# Altium footprint library PcbLib1.PcbLib: 218 footprints (part 13 of 14)
Each footprint in its own frame and in the unit in brackets; x right, y up, seen from the top. Pads: shape width x height; smd on the part's side, far side on the other; paste and mask are expansions set on the pad; w line width, h text height; cw(c..) or ccw(c..) is an arc to the next point about the centre after c.
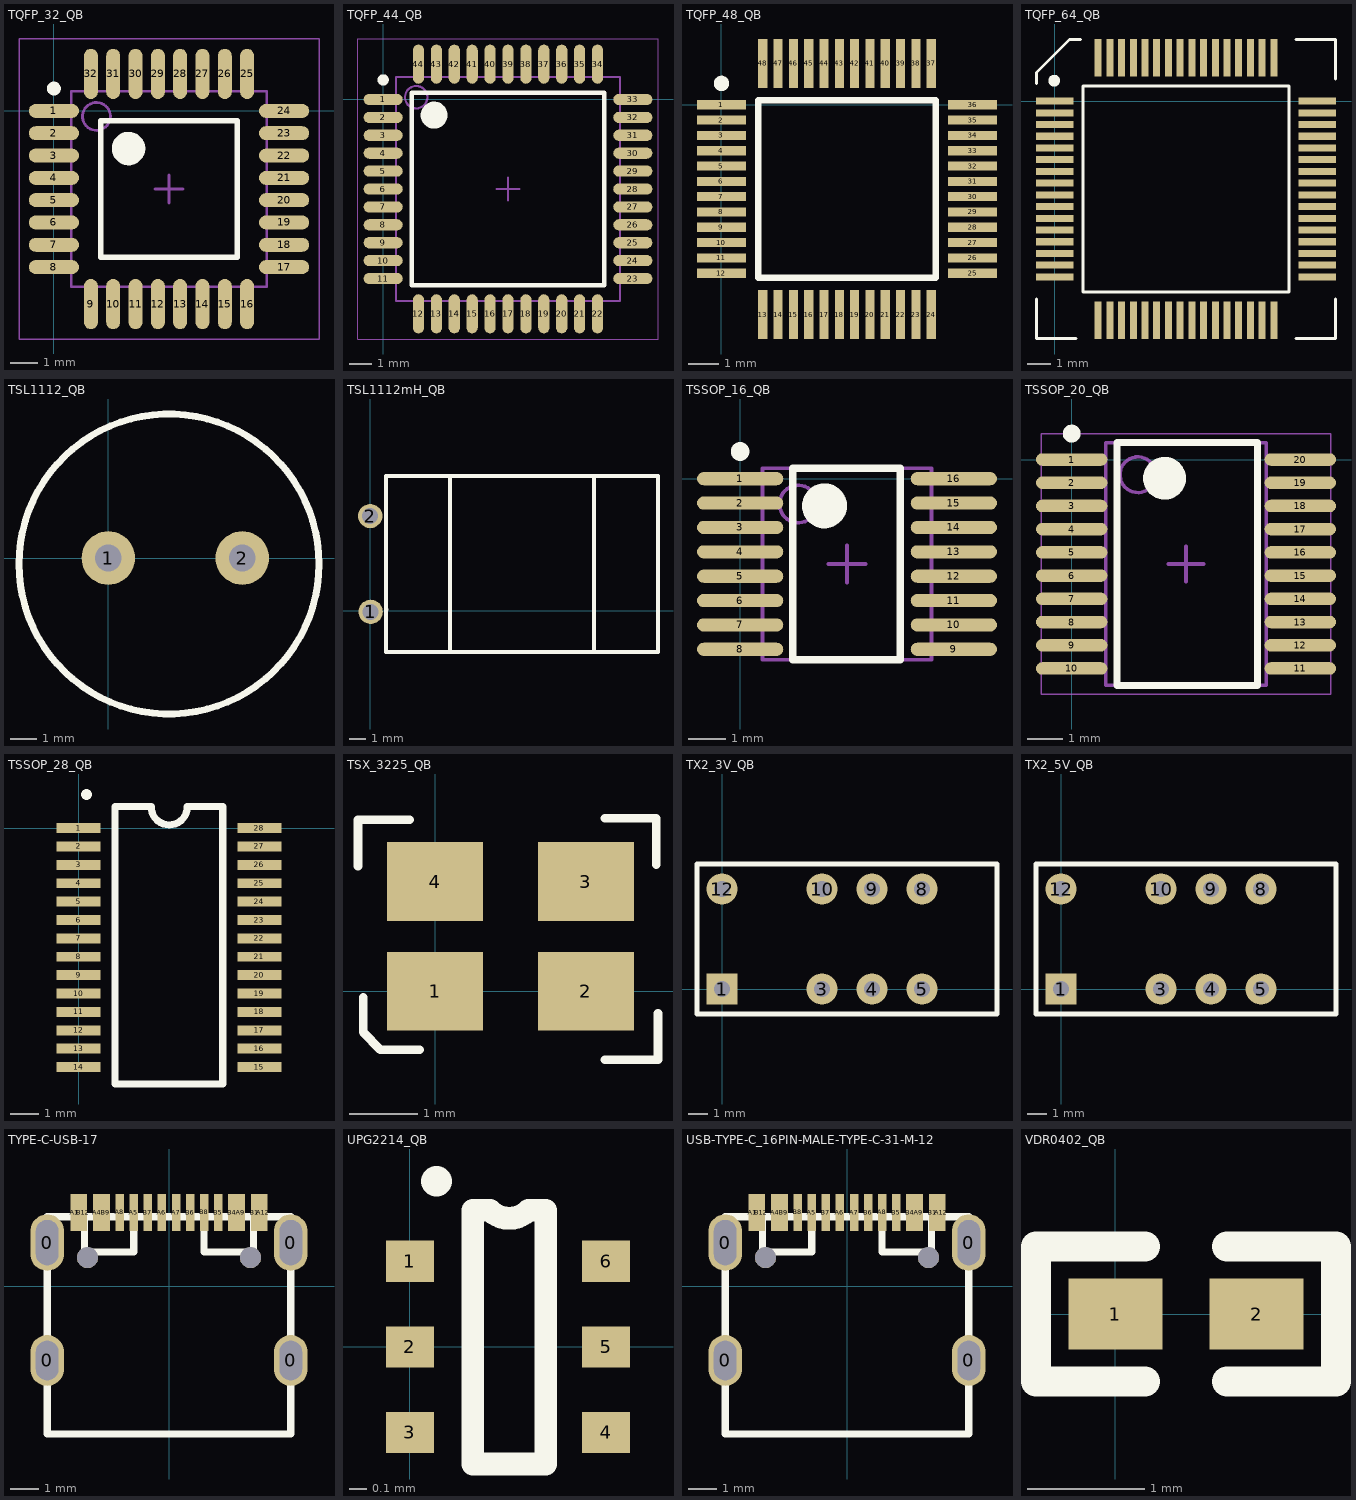
[diagram p12: the footprints below, top view; thin cyan lines are the x and y axes]

## TQFP_32_QB [mm]
height 1.2
pads (32):
  oval 1.8x0.5 smd: 1(0,0) 2(0,-0.8) 3(0,-1.6) 4(0,-2.4) 5(0,-3.2) 6(0,-4) 7(0,-4.8) 8(0,-5.6) 17(8.25,-5.6) 18(8.25,-4.8) 19(8.25,-4) 20(8.25,-3.2) 21(8.25,-2.4) 22(8.25,-1.6) 23(8.25,-0.8) 24(8.25,0)
  oval 0.5x1.8 smd: 9(1.325,-6.925) 10(2.125,-6.925) 11(2.925,-6.925) 12(3.725,-6.925) 13(4.525,-6.925) 14(5.325,-6.925) 15(6.125,-6.925) 16(6.925,-6.925) 25(6.925,1.325) 26(6.125,1.325) 27(5.325,1.325) 28(4.525,1.325) 29(3.725,1.325) 30(2.925,1.325) 31(2.125,1.325) 32(1.325,1.325)
Top Overlay:
  circle w0.25: c0,0.8 r0.125
  circle w0.6: c2.675,-1.35 r0.3
  lines w0.2: 1.675,-5.25 1.675,-0.35 6.575,-0.35 6.575,-5.25 1.675,-5.25
Mechanical 13:
  circle w0.1: c1.525,-0.2 r0.5
  lines w0.1: 0.625,-6.3 0.625,0.7 7.625,0.7 7.625,-6.3 0.625,-6.3
Mechanical 15:
  lines w0.05: -1.25,-8.175 -1.25,2.575 9.5,2.575 9.5,-8.175 -1.25,-8.175
  lines w0.1: 3.625,-2.8 4.625,-2.8 ; 4.125,-3.3 4.125,-2.3
3D body: height 0.2, standoff 0, extent 0,-0.191 0.635,0.19
3D body: height 0.2, standoff 0, extent 0.064,-0.952 0.699,-0.571
3D body: height 0.2, standoff 0, extent 0.064,-1.714 0.699,-1.333
3D body: height 0.2, standoff 0, extent 0.064,-2.603 0.699,-2.222
3D body: height 0.2, standoff 0, extent 0.064,-3.365 0.699,-2.984
3D body: height 0.2, standoff 0, extent 0.064,-4.127 0.699,-3.746
3D body: height 0.2, standoff 0, extent 0.064,-5.016 0.699,-4.635
3D body: height 0.2, standoff 0, extent 0.064,-5.778 0.699,-5.397
3D body: height 0.2, standoff 0, extent 1.079,-6.922 1.46,-6.286
3D body: height 0.2, standoff 0, extent 1.969,-6.921 2.35,-6.286
3D body: height 0.2, standoff 0, extent 2.731,-6.921 3.112,-6.286
3D body: height 0.2, standoff 0, extent 3.493,-6.921 3.874,-6.286
3D body: height 0.2, standoff 0, extent 4.255,-6.921 4.636,-6.286
3D body: height 0.2, standoff 0, extent 5.144,-6.921 5.525,-6.286
3D body: height 0.2, standoff 0, extent 5.906,-6.921 6.287,-6.286
3D body: height 0.2, standoff 0, extent 6.668,-6.921 7.049,-6.286
3D body: height 0.2, standoff 0, extent 7.557,-5.778 8.192,-5.397
3D body: height 0.2, standoff 0, extent 7.556,-5.016 8.192,-4.635
3D body: height 0.2, standoff 0, extent 7.556,-4.127 8.192,-3.746
3D body: height 0.2, standoff 0, extent 7.556,-3.365 8.192,-2.984
3D body: height 0.2, standoff 0, extent 7.556,-2.603 8.192,-2.222
3D body: height 0.2, standoff 0, extent 7.557,-1.714 8.192,-1.333
3D body: height 0.2, standoff 0, extent 7.557,-0.952 8.192,-0.571
3D body: height 0.2, standoff 0, extent 7.557,-0.19 8.192,0.191
3D body: height 0.2, standoff 0, extent 6.795,0.699 7.176,1.334
3D body: height 0.2, standoff 0, extent 5.906,0.699 6.287,1.334
3D body: height 0.2, standoff 0, extent 5.144,0.699 5.525,1.334
3D body: height 0.2, standoff 0, extent 4.382,0.699 4.763,1.334
3D body: height 0.2, standoff 0, extent 3.493,0.699 3.874,1.334
3D body: height 0.2, standoff 0, extent 2.731,0.699 3.112,1.334
3D body: height 0.2, standoff 0, extent 1.969,0.699 2.35,1.334
3D body: height 0.2, standoff 0, extent 1.08,0.699 1.461,1.334
3D body: height 1.2, standoff 0.1, extent 0.625,-6.3 7.625,0.7

## TQFP_44_QB [mm] "TQFP, 44-Leads, Body 10.00x10.00mm, Pitch 0.80mm, IPC Medium Density"
height 1.2
pads (44):
  oval 1.75x0.5 smd: 1(0,0) 2(0,-0.8) 3(0,-1.6) 4(0,-2.4) 5(0,-3.2) 6(0,-4) 7(0,-4.8) 8(0,-5.6) 9(0,-6.4) 10(0,-7.2) 11(0,-8) 23(11.15,-8) 24(11.15,-7.2) 25(11.15,-6.4) 26(11.15,-5.6) 27(11.15,-4.8) 28(11.15,-4) 29(11.15,-3.2) 30(11.15,-2.4) 31(11.15,-1.6) 32(11.15,-0.8) 33(11.15,0)
  oval 0.5x1.75 smd: 12(1.575,-9.575) 13(2.375,-9.575) 14(3.175,-9.575) 15(3.975,-9.575) 16(4.775,-9.575) 17(5.575,-9.575) 18(6.375,-9.575) 19(7.175,-9.575) 20(7.975,-9.575) 21(8.775,-9.575) 22(9.575,-9.575) 34(9.575,1.575) 35(8.775,1.575) 36(7.975,1.575) 37(7.175,1.575) 38(6.375,1.575) 39(5.575,1.575) 40(4.775,1.575) 41(3.975,1.575) 42(3.175,1.575) 43(2.375,1.575) 44(1.575,1.575)
Top Overlay:
  circle w0.25: c0,0.875 r0.125
  circle w0.6: c2.275,-0.7 r0.3
  lines w0.2: 1.275,-8.3 1.275,0.3 9.875,0.3 9.875,-8.3 1.275,-8.3
Mechanical 13:
  circle w0.1: c1.475,0.1 r0.5
  lines w0.1: 0.575,-9 0.575,1 10.575,1 10.575,-9 0.575,-9
Mechanical 15:
  lines w0.05: -1.125,-10.7 -1.125,2.7 12.275,2.7 12.275,-10.7 -1.125,-10.7
  lines w0.1: 5.075,-4 6.075,-4 ; 5.575,-4.5 5.575,-3.5
3D body: height 0.2, standoff 0, extent 1.27,1.397 1.778,2.159
3D body: height 0.6, standoff 0, extent 1.27,1.397 1.778,1.524
3D body: height 0.8, standoff 0.6, extent 1.27,1.016 1.778,1.524
3D body: height 0.2, standoff 0, extent 2.159,1.397 2.667,2.159
3D body: height 0.6, standoff 0, extent 2.159,1.397 2.667,1.524
3D body: height 0.8, standoff 0.6, extent 2.159,1.016 2.667,1.524
3D body: height 0.2, standoff 0, extent 2.921,1.397 3.429,2.159
3D body: height 0.6, standoff 0, extent 2.921,1.397 3.429,1.524
3D body: height 0.8, standoff 0.6, extent 2.921,1.016 3.429,1.524
3D body: height 0.2, standoff 0, extent 3.683,1.397 4.191,2.159
3D body: height 0.6, standoff 0, extent 3.683,1.397 4.191,1.524
3D body: height 0.8, standoff 0.6, extent 3.683,1.016 4.191,1.524
3D body: height 0.2, standoff 0, extent 4.572,1.397 5.08,2.159
3D body: height 0.6, standoff 0, extent 4.572,1.397 5.08,1.524
3D body: height 0.8, standoff 0.6, extent 4.572,1.016 5.08,1.524
3D body: height 0.2, standoff 0, extent 5.334,1.397 5.842,2.159
3D body: height 0.6, standoff 0, extent 5.334,1.397 5.842,1.524
3D body: height 0.8, standoff 0.6, extent 5.334,1.016 5.842,1.524
3D body: height 0.2, standoff 0, extent 6.096,1.397 6.604,2.159
3D body: height 0.6, standoff 0, extent 6.096,1.397 6.604,1.524
3D body: height 0.8, standoff 0.6, extent 6.096,1.016 6.604,1.524
3D body: height 0.2, standoff 0, extent 6.858,1.397 7.366,2.159
3D body: height 0.6, standoff 0, extent 6.858,1.397 7.366,1.524
3D body: height 0.8, standoff 0.6, extent 6.858,1.016 7.366,1.524
3D body: height 0.2, standoff 0, extent 7.747,1.397 8.255,2.159
3D body: height 0.6, standoff 0, extent 7.747,1.397 8.255,1.524
3D body: height 0.8, standoff 0.6, extent 7.747,1.016 8.255,1.524
3D body: height 0.2, standoff 0, extent 8.509,1.397 9.017,2.159
3D body: height 0.6, standoff 0, extent 8.509,1.397 9.017,1.524
3D body: height 0.8, standoff 0.6, extent 8.509,1.016 9.017,1.524
3D body: height 0.2, standoff 0, extent 9.271,1.397 9.779,2.159
3D body: height 0.6, standoff 0, extent 9.271,1.397 9.779,1.524
3D body: height 0.8, standoff 0.6, extent 9.271,1.016 9.779,1.524
3D body: height 0.2, standoff 0, extent 10.922,-0.254 11.684,0.254
3D body: height 0.6, standoff 0, extent 10.922,-0.254 11.049,0.254
3D body: height 0.8, standoff 0.6, extent 10.541,-0.254 11.049,0.254
3D body: height 0.2, standoff 0, extent 10.922,-1.016 11.684,-0.508
3D body: height 0.6, standoff 0, extent 10.922,-1.016 11.049,-0.508
3D body: height 0.8, standoff 0.6, extent 10.541,-1.016 11.049,-0.508
3D body: height 0.2, standoff 0, extent 10.922,-1.905 11.684,-1.397
3D body: height 0.6, standoff 0, extent 10.922,-1.905 11.049,-1.397
3D body: height 0.8, standoff 0.6, extent 10.541,-1.905 11.049,-1.397
3D body: height 0.2, standoff 0, extent 10.922,-2.667 11.684,-2.159
3D body: height 0.6, standoff 0, extent 10.922,-2.667 11.049,-2.159
3D body: height 0.8, standoff 0.6, extent 10.541,-2.667 11.049,-2.159
3D body: height 0.2, standoff 0, extent 10.922,-3.429 11.684,-2.921
3D body: height 0.6, standoff 0, extent 10.922,-3.429 11.049,-2.921
3D body: height 0.8, standoff 0.6, extent 10.541,-3.429 11.049,-2.921
3D body: height 0.2, standoff 0, extent 10.922,-4.191 11.684,-3.683
3D body: height 0.6, standoff 0, extent 10.922,-4.191 11.049,-3.683
3D body: height 0.8, standoff 0.6, extent 10.541,-4.191 11.049,-3.683
3D body: height 0.2, standoff 0, extent 10.922,-5.08 11.684,-4.572
3D body: height 0.6, standoff 0, extent 10.922,-5.08 11.049,-4.572
3D body: height 0.8, standoff 0.6, extent 10.541,-5.08 11.049,-4.572
3D body: height 0.2, standoff 0, extent 10.922,-5.842 11.684,-5.334
3D body: height 0.6, standoff 0, extent 10.922,-5.842 11.049,-5.334
3D body: height 0.8, standoff 0.6, extent 10.541,-5.842 11.049,-5.334
3D body: height 0.2, standoff 0, extent 10.922,-6.604 11.684,-6.096
3D body: height 0.6, standoff 0, extent 10.922,-6.604 11.049,-6.096
3D body: height 0.8, standoff 0.6, extent 10.541,-6.604 11.049,-6.096
3D body: height 0.2, standoff 0, extent 10.922,-7.493 11.684,-6.985
3D body: height 0.6, standoff 0, extent 10.922,-7.493 11.049,-6.985
3D body: height 0.8, standoff 0.6, extent 10.541,-7.493 11.049,-6.985
3D body: height 0.2, standoff 0, extent 10.922,-8.255 11.684,-7.747
3D body: height 0.6, standoff 0, extent 10.922,-8.255 11.049,-7.747
3D body: height 0.8, standoff 0.6, extent 10.541,-8.255 11.049,-7.747
3D body: height 0.2, standoff 0, extent 9.271,-10.033 9.779,-9.271
3D body: height 0.6, standoff 0, extent 9.271,-9.398 9.779,-9.271
3D body: height 0.8, standoff 0.6, extent 9.271,-9.398 9.779,-8.89
3D body: height 0.2, standoff 0, extent 8.509,-10.033 9.017,-9.271
3D body: height 0.6, standoff 0, extent 8.509,-9.398 9.017,-9.271
3D body: height 0.8, standoff 0.6, extent 8.509,-9.398 9.017,-8.89
3D body: height 0.2, standoff 0, extent 7.747,-10.033 8.255,-9.271
3D body: height 0.6, standoff 0, extent 7.747,-9.398 8.255,-9.271
3D body: height 0.8, standoff 0.6, extent 7.747,-9.398 8.255,-8.89
3D body: height 0.2, standoff 0, extent 6.858,-10.033 7.366,-9.271
3D body: height 0.6, standoff 0, extent 6.858,-9.398 7.366,-9.271
3D body: height 0.8, standoff 0.6, extent 6.858,-9.398 7.366,-8.89
3D body: height 0.2, standoff 0, extent 6.096,-10.033 6.604,-9.271
3D body: height 0.6, standoff 0, extent 6.096,-9.398 6.604,-9.271
3D body: height 0.8, standoff 0.6, extent 6.096,-9.398 6.604,-8.89
3D body: height 0.2, standoff 0, extent 5.334,-10.033 5.842,-9.271
3D body: height 0.6, standoff 0, extent 5.334,-9.398 5.842,-9.271
3D body: height 0.8, standoff 0.6, extent 5.334,-9.398 5.842,-8.89
3D body: height 0.2, standoff 0, extent 4.445,-10.033 4.953,-9.271
3D body: height 0.6, standoff 0, extent 4.445,-9.398 4.953,-9.271
3D body: height 0.8, standoff 0.6, extent 4.445,-9.398 4.953,-8.89
3D body: height 0.2, standoff 0, extent 3.683,-10.033 4.191,-9.271
3D body: height 0.6, standoff 0, extent 3.683,-9.398 4.191,-9.271
3D body: height 0.8, standoff 0.6, extent 3.683,-9.398 4.191,-8.89
3D body: height 0.2, standoff 0, extent 2.921,-10.033 3.429,-9.271
3D body: height 0.6, standoff 0, extent 2.921,-9.398 3.429,-9.271
3D body: height 0.8, standoff 0.6, extent 2.921,-9.398 3.429,-8.89
3D body: height 0.2, standoff 0, extent 2.159,-10.033 2.667,-9.271
3D body: height 0.6, standoff 0, extent 2.159,-9.398 2.667,-9.271
3D body: height 0.8, standoff 0.6, extent 2.159,-9.398 2.667,-8.89
3D body: height 0.2, standoff 0, extent 1.27,-10.033 1.778,-9.271
3D body: height 0.6, standoff 0, extent 1.27,-9.398 1.778,-9.271
3D body: height 0.8, standoff 0.6, extent 1.27,-9.398 1.778,-8.89
3D body: height 0.2, standoff 0, extent -0.508,-8.255 0.254,-7.747
3D body: height 0.6, standoff 0, extent 0.127,-8.255 0.254,-7.747
3D body: height 0.8, standoff 0.6, extent 0.127,-8.255 0.635,-7.747
3D body: height 0.2, standoff 0, extent -0.508,-7.493 0.254,-6.985
3D body: height 0.6, standoff 0, extent 0.127,-7.493 0.254,-6.985
3D body: height 0.8, standoff 0.6, extent 0.127,-7.493 0.635,-6.985
3D body: height 0.2, standoff 0, extent -0.508,-6.604 0.254,-6.096
3D body: height 0.6, standoff 0, extent 0.127,-6.604 0.254,-6.096
3D body: height 0.8, standoff 0.6, extent 0.127,-6.604 0.635,-6.096
3D body: height 0.2, standoff 0, extent -0.508,-5.842 0.254,-5.334
3D body: height 0.6, standoff 0, extent 0.127,-5.842 0.254,-5.334
3D body: height 0.8, standoff 0.6, extent 0.127,-5.842 0.635,-5.334
3D body: height 0.2, standoff 0, extent -0.508,-5.08 0.254,-4.572
3D body: height 0.6, standoff 0, extent 0.127,-5.08 0.254,-4.572
3D body: height 0.8, standoff 0.6, extent 0.127,-5.08 0.635,-4.572
3D body: height 0.2, standoff 0, extent -0.508,-4.191 0.254,-3.683
3D body: height 0.6, standoff 0, extent 0.127,-4.191 0.254,-3.683
3D body: height 0.8, standoff 0.6, extent 0.127,-4.191 0.635,-3.683
3D body: height 0.2, standoff 0, extent -0.508,-3.429 0.254,-2.921
3D body: height 0.6, standoff 0, extent 0.127,-3.429 0.254,-2.921
3D body: height 0.8, standoff 0.6, extent 0.127,-3.429 0.635,-2.921
3D body: height 0.2, standoff 0, extent -0.508,-2.667 0.254,-2.159
3D body: height 0.6, standoff 0, extent 0.127,-2.667 0.254,-2.159
3D body: height 0.8, standoff 0.6, extent 0.127,-2.667 0.635,-2.159
3D body: height 0.2, standoff 0, extent -0.508,-1.905 0.254,-1.397
3D body: height 0.6, standoff 0, extent 0.127,-1.905 0.254,-1.397
3D body: height 0.8, standoff 0.6, extent 0.127,-1.905 0.635,-1.397
3D body: height 0.2, standoff 0, extent -0.508,-1.016 0.254,-0.508
3D body: height 0.6, standoff 0, extent 0.127,-1.016 0.254,-0.508
3D body: height 0.8, standoff 0.6, extent 0.127,-1.016 0.635,-0.508
3D body: height 0.2, standoff 0, extent -0.508,-0.254 0.254,0.254
3D body: height 0.6, standoff 0, extent 0.127,-0.254 0.254,0.254
3D body: height 0.8, standoff 0.6, extent 0.127,-0.254 0.635,0.254
3D body: height 1.2, standoff 0.1, extent 0.575,-9 10.575,1

## TQFP_48_QB [mm]
pads (48):
  rect 1.6x0.3 smd: 1(0,0) 2(0,-0.5) 3(0,-1) 4(0,-1.5) 5(0,-2) 6(0,-2.5) 7(0,-3) 8(0,-3.5) 9(0,-4) 10(0,-4.5) 11(0,-5) 12(0,-5.5) 25(8.2,-5.5) 26(8.2,-5) 27(8.2,-4.5) 28(8.2,-4) 29(8.2,-3.5) 30(8.2,-3) 31(8.2,-2.5) 32(8.2,-2) 33(8.2,-1.5) 34(8.2,-1) 35(8.2,-0.5) 36(8.2,0)
  rect 0.3x1.6 smd: 13(1.35,-6.85) 14(1.85,-6.85) 15(2.35,-6.85) 16(2.85,-6.85) 17(3.35,-6.85) 18(3.85,-6.85) 19(4.35,-6.85) 20(4.85,-6.85) 21(5.35,-6.85) 22(5.85,-6.85) 23(6.35,-6.85) 24(6.85,-6.85) 37(6.85,1.35) 38(6.35,1.35) 39(5.85,1.35) 40(5.35,1.35) 41(4.85,1.35) 42(4.35,1.35) 43(3.85,1.35) 44(3.35,1.35) 45(2.85,1.35) 46(2.35,1.35) 47(1.85,1.35) 48(1.35,1.35)
Top Overlay:
  circle w0.25: c0,0.7 r0.125
  lines w0.2: 1.2,-5.65 7,-5.65 7,0.15 1.2,0.15 1.2,-5.65

## TQFP_64_QB [mm]
pads (64):
  rect 1.6x0.3 smd: 1(0,0) 2(0,-0.5) 3(0,-1) 4(0,-1.5) 5(0,-2) 6(0,-2.5) 7(0,-3) 8(0,-3.5) 9(0,-4) 10(0,-4.5) 11(0,-5) 12(0,-5.5) 13(0,-6) 14(0,-6.5) 15(0,-7) 16(0,-7.5) 33(11.2,-7.5) 34(11.2,-7) 35(11.2,-6.5) 36(11.2,-6) 37(11.2,-5.5) 38(11.2,-5) 39(11.2,-4.5) 40(11.2,-4) 41(11.2,-3.5) 42(11.2,-3) 43(11.2,-2.5) 44(11.2,-2) 45(11.2,-1.5) 46(11.2,-1) 47(11.2,-0.5) 48(11.2,0)
  rect 0.3x1.6 smd: 17(1.85,-9.35) 18(2.35,-9.35) 19(2.85,-9.35) 20(3.35,-9.35) 21(3.85,-9.35) 22(4.35,-9.35) 23(4.85,-9.35) 24(5.35,-9.35) 25(5.85,-9.35) 26(6.35,-9.35) 27(6.85,-9.35) 28(7.35,-9.35) 29(7.85,-9.35) 30(8.35,-9.35) 31(8.85,-9.35) 32(9.35,-9.35) 49(9.35,1.85) 50(8.85,1.85) 51(8.35,1.85) 52(7.85,1.85) 53(7.35,1.85) 54(6.85,1.85) 55(6.35,1.85) 56(5.85,1.85) 57(5.35,1.85) 58(4.85,1.85) 59(4.35,1.85) 60(3.85,1.85) 61(3.35,1.85) 62(2.85,1.85) 63(2.35,1.85) 64(1.85,1.85)
Top Overlay:
  circle w0.25: c-0.025,0.873 r0.125
  lines w0.127: -0.775,-8.45 -0.775,-10.125 0.9,-10.125 ; -0.775,0.75 -0.775,1.225 0.625,2.625 1.1,2.625 ; 10.3,-10.125 11.975,-10.125 11.975,-8.45 ; 10.3,2.625 11.975,2.625 11.975,0.95 ; 1.2,-8.15 10,-8.15 10,0.65 1.2,0.65 1.2,-8.15
3D body: height 2, standoff 0, extent 1.2,-8.15 10,0.65
3D body: height 0.2, standoff 0, extent 0,-0.1 1.3,0.1
3D body: height 0.2, standoff 0, extent 0,-0.6 1.3,-0.4
3D body: height 0.2, standoff 0, extent 0,-1.6 1.3,-1.4
3D body: height 0.2, standoff 0, extent 0,-1.1 1.3,-0.9
3D body: height 0.2, standoff 0, extent 0,-3.1 1.3,-2.9
3D body: height 0.2, standoff 0, extent 0,-3.6 1.3,-3.4
3D body: height 0.2, standoff 0, extent 0,-2.6 1.3,-2.4
3D body: height 0.2, standoff 0, extent 0,-2.1 1.3,-1.9
3D body: height 0.2, standoff 0, extent 0,-6.1 1.3,-5.9
3D body: height 0.2, standoff 0, extent 0,-6.6 1.3,-6.4
3D body: height 0.2, standoff 0, extent 0,-7.6 1.3,-7.4
3D body: height 0.2, standoff 0, extent 0,-7.1 1.3,-6.9
3D body: height 0.2, standoff 0, extent 0,-5.1 1.3,-4.9
3D body: height 0.2, standoff 0, extent 0,-5.6 1.3,-5.4
3D body: height 0.2, standoff 0, extent 0,-4.6 1.3,-4.4
3D body: height 0.2, standoff 0, extent 0,-4.1 1.3,-3.9
3D body: height 0.2, standoff 0, extent 5.25,0.55 5.45,1.85
3D body: height 0.2, standoff 0, extent 4.75,0.55 4.95,1.85
3D body: height 0.2, standoff 0, extent 3.75,0.55 3.95,1.85
3D body: height 0.2, standoff 0, extent 4.25,0.55 4.45,1.85
3D body: height 0.2, standoff 0, extent 2.25,0.55 2.45,1.85
3D body: height 0.2, standoff 0, extent 1.75,0.55 1.95,1.85
3D body: height 0.2, standoff 0, extent 2.75,0.55 2.95,1.85
3D body: height 0.2, standoff 0, extent 3.25,0.55 3.45,1.85
3D body: height 0.2, standoff 0, extent 7.25,0.55 7.45,1.85
3D body: height 0.2, standoff 0, extent 6.75,0.55 6.95,1.85
3D body: height 0.2, standoff 0, extent 5.75,0.55 5.95,1.85
3D body: height 0.2, standoff 0, extent 6.25,0.55 6.45,1.85
3D body: height 0.2, standoff 0, extent 8.25,0.55 8.45,1.85
3D body: height 0.2, standoff 0, extent 7.75,0.55 7.95,1.85
3D body: height 0.2, standoff 0, extent 8.75,0.55 8.95,1.85
3D body: height 0.2, standoff 0, extent 9.25,0.55 9.45,1.85
3D body: height 0.2, standoff 0, extent 9.9,-4.1 11.2,-3.9
3D body: height 0.2, standoff 0, extent 9.9,-4.6 11.2,-4.4
3D body: height 0.2, standoff 0, extent 9.9,-5.6 11.2,-5.4
3D body: height 0.2, standoff 0, extent 9.9,-5.1 11.2,-4.9
3D body: height 0.2, standoff 0, extent 9.9,-7.1 11.2,-6.9
3D body: height 0.2, standoff 0, extent 9.9,-7.6 11.2,-7.4
3D body: height 0.2, standoff 0, extent 9.9,-6.6 11.2,-6.4
3D body: height 0.2, standoff 0, extent 9.9,-6.1 11.2,-5.9
3D body: height 0.2, standoff 0, extent 9.9,-2.1 11.2,-1.9
3D body: height 0.2, standoff 0, extent 9.9,-2.6 11.2,-2.4
3D body: height 0.2, standoff 0, extent 9.9,-3.6 11.2,-3.4
3D body: height 0.2, standoff 0, extent 9.9,-3.1 11.2,-2.9
3D body: height 0.2, standoff 0, extent 9.9,-1.1 11.2,-0.9
3D body: height 0.2, standoff 0, extent 9.9,-1.6 11.2,-1.4
3D body: height 0.2, standoff 0, extent 9.9,-0.6 11.2,-0.4
3D body: height 0.2, standoff 0, extent 9.9,-0.1 11.2,0.1
3D body: height 0.2, standoff 0, extent 5.25,-9.35 5.45,-8.05
3D body: height 0.2, standoff 0, extent 4.75,-9.35 4.95,-8.05
3D body: height 0.2, standoff 0, extent 3.75,-9.35 3.95,-8.05
3D body: height 0.2, standoff 0, extent 4.25,-9.35 4.45,-8.05
3D body: height 0.2, standoff 0, extent 2.25,-9.35 2.45,-8.05
3D body: height 0.2, standoff 0, extent 1.75,-9.35 1.95,-8.05
3D body: height 0.2, standoff 0, extent 2.75,-9.35 2.95,-8.05
3D body: height 0.2, standoff 0, extent 3.25,-9.35 3.45,-8.05
3D body: height 0.2, standoff 0, extent 7.25,-9.35 7.45,-8.05
3D body: height 0.2, standoff 0, extent 6.75,-9.35 6.95,-8.05
3D body: height 0.2, standoff 0, extent 5.75,-9.35 5.95,-8.05
3D body: height 0.2, standoff 0, extent 6.25,-9.35 6.45,-8.05
3D body: height 0.2, standoff 0, extent 8.25,-9.35 8.45,-8.05
3D body: height 0.2, standoff 0, extent 7.75,-9.35 7.95,-8.05
3D body: height 0.2, standoff 0, extent 8.75,-9.35 8.95,-8.05
3D body: height 0.2, standoff 0, extent 9.25,-9.35 9.45,-8.05

## TSL1112_QB [mm]
pads (2):
  round 2 hole 1: 1(0,0) 2(5,0)
Top Overlay:
  circle w0.254: c2.264,-0.224 r5.6
3D body: height 0, standoff -5.5, extent -0.411,-0.417 0.436,0.432
3D body: height 0, standoff -5.5, extent 4.586,-0.434 5.433,0.414
3D body: height 12.2, standoff 0, extent -3.259,-5.834 7.897,5.344

## TSL1112mH_QB [mil]
pads (2):
  round 60 hole 39.37: 1(0.43,-2.46) 2(-0.74,233.57)
Top Overlay:
  lines w10: 196.11,-101.07 196.11,332 ; 550.44,-101.07 550.44,331.02 ; 38.63,-101.07 38.63,332 707.92,332 707.92,-101.07 38.63,-101.07 ; 38.63,239.48 38.63,239.48 ; 39.8,3.45 39.8,3.45
3D body: height 236.22, standoff 197.01, extent -4.07,213.91 173.1,253.2
3D body: height 236.22, standoff 197.01, extent 0.43,-22.1 197.28,17.19
3D body: height 433.07, standoff 1.71, extent 36.66,-100.22 705.95,332
3D body: height 212.6, standoff -102.36, extent -19.61,215.19 15.68,250.55
3D body: height 236.22, standoff 196.85, extent -20.49,214.7 18.67,253.9
3D body: height 236.22, standoff 196.85, extent -19.32,-21.33 19.84,17.87
3D body: height 212.6, standoff -102.36, extent -18.44,-20.84 16.85,14.52

## TSSOP_16_QB [mm]
height 1.2
pads (16):
  oval 2.3x0.35 smd: 1(0,0) 2(0,-0.65) 3(0,-1.3) 4(0,-1.95) 5(0,-2.6) 6(0,-3.25) 7(0,-3.9) 8(0,-4.55) 9(5.7,-4.55) 10(5.7,-3.9) 11(5.7,-3.25) 12(5.7,-2.6) 13(5.7,-1.95) 14(5.7,-1.3) 15(5.7,-0.65) 16(5.7,0)
Top Overlay:
  circle w0.6: c2.25,-0.725 r0.3
  circle w0.25: c0,0.725 r0.125
  lines w0.2: 1.402,-4.825 4.272,-4.825 4.272,0.275 1.402,0.275 1.402,-0.848 1.402,-3.398 1.402,-4.825
Mechanical 13:
  circle w0.1: c1.55,-0.675 r0.5
  lines w0.1: 0.6,-4.825 5.1,-4.825 5.1,0.275 0.6,0.275 0.6,-4.825
Mechanical 15:
  lines w0.1: 2.35,-2.275 3.35,-2.275 ; 2.85,-2.775 2.85,-1.775
3D body: height 0.5, standoff 0, extent -0.439,-0.167 0.805,0.138
3D body: height 0.5, standoff 0, extent -0.414,-0.802 0.831,-0.497
3D body: height 0.5, standoff 0, extent -0.414,-1.462 0.831,-1.157
3D body: height 0.5, standoff 0, extent -0.414,-2.097 0.831,-1.792
3D body: height 0.5, standoff 0, extent -0.388,-2.758 0.856,-2.453
3D body: height 0.5, standoff 0, extent -0.376,-3.418 0.869,-3.113
3D body: height 0.5, standoff 0, extent -0.35,-4.053 0.894,-3.748
3D body: height 0.5, standoff 0, extent -0.325,-4.713 0.92,-4.409
3D body: height 0.5, standoff 0, extent 4.819,-4.713 6.063,-4.409
3D body: height 0.5, standoff 0, extent 4.819,-4.053 6.063,-3.748
3D body: height 0.5, standoff 0, extent 4.819,-3.393 6.063,-3.088
3D body: height 0.5, standoff 0, extent 4.793,-2.758 6.038,-2.453
3D body: height 0.5, standoff 0, extent 4.793,-2.097 6.038,-1.792
3D body: height 0.5, standoff 0, extent 4.793,-1.462 6.038,-1.157
3D body: height 0.5, standoff 0, extent 4.793,-0.802 6.038,-0.497
3D body: height 0.5, standoff 0, extent 4.768,-0.141 6.012,0.163
3D body: height 1.2, standoff 0.25, extent 0.6,-4.825 5.1,0.275

## TSSOP_20_QB [mm] "TSSOP, 20-Leads, Body 6.70x4.50mm, Pitch 0.65mm, IPC Medium Density"
height 1.2
pads (20):
  oval 2x0.35 smd: 1(0,0) 2(0,-0.65) 3(0,-1.3) 4(0,-1.95) 5(0,-2.6) 6(0,-3.25) 7(0,-3.9) 8(0,-4.55) 9(0,-5.2) 10(0,-5.85) 11(6.4,-5.85) 12(6.4,-5.2) 13(6.4,-4.55) 14(6.4,-3.9) 15(6.4,-3.25) 16(6.4,-2.6) 17(6.4,-1.95) 18(6.4,-1.3) 19(6.4,-0.65) 20(6.4,0)
Top Overlay:
  circle w0.6: c2.6,-0.525 r0.3
  circle w0.25: c0,0.725 r0.125
  lines w0.2: 1.27,-6.325 5.207,-6.325 5.207,0.475 1.27,0.475 1.27,-6.325
Mechanical 13:
  circle w0.1: c1.85,-0.425 r0.5
  lines w0.1: 0.95,-6.325 5.45,-6.325 5.45,0.475 0.95,0.475 0.95,-6.325
Mechanical 15:
  lines w0.05: -0.85,-6.575 7.25,-6.575 7.25,0.725 -0.85,0.725 -0.85,-6.575
  lines w0.1: 2.7,-2.925 3.7,-2.925 ; 3.2,-3.425 3.2,-2.425
3D body: height 1, standoff 0.75, extent 0.381,-0.127 1.016,0.127
3D body: height 0.75, standoff 0, extent 0.381,-0.127 0.508,0.127
3D body: height 0.25, standoff 0, extent -0.254,-0.127 0.508,0.127
3D body: height 1, standoff 0.75, extent 0.381,-0.762 1.016,-0.508
3D body: height 0.75, standoff 0, extent 0.381,-0.762 0.508,-0.508
3D body: height 0.25, standoff 0, extent -0.254,-0.762 0.508,-0.508
3D body: height 1, standoff 0.75, extent 0.381,-1.397 1.016,-1.143
3D body: height 0.75, standoff 0, extent 0.381,-1.397 0.508,-1.143
3D body: height 0.25, standoff 0, extent -0.254,-1.397 0.508,-1.143
3D body: height 1, standoff 0.75, extent 0.381,-2.032 1.016,-1.778
3D body: height 0.75, standoff 0, extent 0.381,-2.032 0.508,-1.778
3D body: height 0.25, standoff 0, extent -0.254,-2.032 0.508,-1.778
3D body: height 1, standoff 0.75, extent 0.381,-3.429 1.016,-3.175
3D body: height 0.75, standoff 0, extent 0.381,-3.429 0.508,-3.175
3D body: height 0.25, standoff 0, extent -0.254,-3.429 0.508,-3.175
3D body: height 1, standoff 0.75, extent 0.381,-4.064 1.016,-3.81
3D body: height 0.75, standoff 0, extent 0.381,-4.064 0.508,-3.81
3D body: height 0.25, standoff 0, extent -0.254,-4.064 0.508,-3.81
3D body: height 1, standoff 0.75, extent 0.381,-4.699 1.016,-4.445
3D body: height 0.75, standoff 0, extent 0.381,-4.699 0.508,-4.445
3D body: height 0.25, standoff 0, extent -0.254,-4.699 0.508,-4.445
3D body: height 1, standoff 0.75, extent 0.381,-2.794 1.016,-2.54
3D body: height 0.75, standoff 0, extent 0.381,-2.794 0.508,-2.54
3D body: height 0.25, standoff 0, extent -0.254,-2.794 0.508,-2.54
3D body: height 1, standoff 0.75, extent 0.381,-5.334 1.016,-5.08
3D body: height 0.75, standoff 0, extent 0.381,-5.334 0.508,-5.08
3D body: height 0.25, standoff 0, extent -0.254,-5.334 0.508,-5.08
3D body: height 1, standoff 0.75, extent 0.381,-5.969 1.016,-5.715
3D body: height 0.75, standoff 0, extent 0.381,-5.969 0.508,-5.715
3D body: height 0.25, standoff 0, extent -0.254,-5.969 0.508,-5.715
3D body: height 1, standoff 0.75, extent 5.334,-5.969 5.969,-5.715
3D body: height 0.75, standoff 0, extent 5.842,-5.969 5.969,-5.715
3D body: height 0.25, standoff 0, extent 5.842,-5.969 6.604,-5.715
3D body: height 1, standoff 0.75, extent 5.334,-5.334 5.969,-5.08
3D body: height 0.75, standoff 0, extent 5.842,-5.334 5.969,-5.08
3D body: height 0.25, standoff 0, extent 5.842,-5.334 6.604,-5.08
3D body: height 1, standoff 0.75, extent 5.334,-4.699 5.969,-4.445
3D body: height 0.75, standoff 0, extent 5.842,-4.699 5.969,-4.445
3D body: height 0.25, standoff 0, extent 5.842,-4.699 6.604,-4.445
3D body: height 1, standoff 0.75, extent 5.334,-4.064 5.969,-3.81
3D body: height 0.75, standoff 0, extent 5.842,-4.064 5.969,-3.81
3D body: height 0.25, standoff 0, extent 5.842,-4.064 6.604,-3.81
3D body: height 1, standoff 0.75, extent 5.334,-3.429 5.969,-3.175
3D body: height 0.75, standoff 0, extent 5.842,-3.429 5.969,-3.175
3D body: height 0.25, standoff 0, extent 5.842,-3.429 6.604,-3.175
3D body: height 1, standoff 0.75, extent 5.334,-2.667 5.969,-2.413
3D body: height 0.75, standoff 0, extent 5.842,-2.667 5.969,-2.413
3D body: height 0.25, standoff 0, extent 5.842,-2.667 6.604,-2.413
3D body: height 1, standoff 0.75, extent 5.334,-2.032 5.969,-1.778
3D body: height 0.75, standoff 0, extent 5.842,-2.032 5.969,-1.778
3D body: height 0.25, standoff 0, extent 5.842,-2.032 6.604,-1.778
3D body: height 1, standoff 0.75, extent 5.334,-1.397 5.969,-1.143
3D body: height 0.75, standoff 0, extent 5.842,-1.397 5.969,-1.143
3D body: height 0.25, standoff 0, extent 5.842,-1.397 6.604,-1.143
3D body: height 1, standoff 0.75, extent 5.334,-0.762 5.969,-0.508
3D body: height 0.75, standoff 0, extent 5.842,-0.762 5.969,-0.508
3D body: height 0.25, standoff 0, extent 5.842,-0.762 6.604,-0.508
3D body: height 1, standoff 0.75, extent 5.334,-0.127 5.969,0.127
3D body: height 0.75, standoff 0, extent 5.842,-0.127 5.969,0.127
3D body: height 0.25, standoff 0, extent 5.842,-0.127 6.604,0.127
3D body: height 1.2, standoff 0.1, extent 0.95,-6.325 5.45,0.475

## TSSOP_28_QB [mm]
height 1.2
pads (28):
  rect 1.55x0.35 smd: 1(0,0) 2(0,-0.65) 3(0,-1.3) 4(0,-1.95) 5(0,-2.6) 6(0,-3.25) 7(0,-3.9) 8(0,-4.55) 9(0,-5.2) 10(0,-5.85) 11(0,-6.5) 12(0,-7.15) 13(0,-7.8) 14(0,-8.45) 15(6.395,-8.45) 16(6.395,-7.8) 17(6.395,-7.15) 18(6.395,-6.5) 19(6.395,-5.85) 20(6.395,-5.2) 21(6.395,-4.55) 22(6.395,-3.9) 23(6.395,-3.25) 24(6.395,-2.6) 25(6.395,-1.95) 26(6.395,-1.3) 27(6.395,-0.65) 28(6.395,0)
Top Overlay:
  lines w0.254: 2.57,0.748 ccw(c3.205,0.748) 3.84,0.745 ; 2.57,0.768 1.3,0.768 1.285,0.753 1.285,-9.05 5.097,-9.05 5.097,0.753 5.082,0.768 3.84,0.768
  lines w0.381: 0.282,1.188 0.285,1.19
3D body: height 1.2, standoff 0.1, extent 0.95,-9.025 5.45,0.675
3D body: height 0.75, standoff 0.6, extent 0.47,-0.153 1.032,0.148
3D body: height 0.6, standoff 0.1, extent 0.47,-0.153 0.595,0.148
3D body: height 0.2, standoff 0.05, extent -0.155,-0.152 0.595,0.148
3D body: height 0.75, standoff 0.6, extent 0.47,-0.803 1.032,-0.502
3D body: height 0.6, standoff 0.1, extent 0.47,-0.803 0.595,-0.502
3D body: height 0.2, standoff 0.05, extent -0.155,-0.802 0.595,-0.502
3D body: height 0.75, standoff 0.6, extent 0.47,-1.45 1.032,-1.15
3D body: height 0.6, standoff 0.1, extent 0.47,-1.45 0.595,-1.15
3D body: height 0.2, standoff 0.05, extent -0.155,-1.45 0.595,-1.15
3D body: height 0.75, standoff 0.6, extent 0.47,-2.103 1.032,-1.802
3D body: height 0.6, standoff 0.1, extent 0.47,-2.103 0.595,-1.802
3D body: height 0.2, standoff 0.05, extent -0.155,-2.102 0.595,-1.802
3D body: height 0.75, standoff 0.6, extent 0.47,-2.75 1.032,-2.45
3D body: height 0.6, standoff 0.1, extent 0.47,-2.75 0.595,-2.45
3D body: height 0.2, standoff 0.05, extent -0.155,-2.75 0.595,-2.45
3D body: height 0.75, standoff 0.6, extent 0.47,-3.4 1.032,-3.1
3D body: height 0.6, standoff 0.1, extent 0.47,-3.4 0.595,-3.1
3D body: height 0.2, standoff 0.05, extent -0.155,-3.4 0.595,-3.1
3D body: height 0.75, standoff 0.6, extent 0.47,-4.053 1.032,-3.752
3D body: height 0.6, standoff 0.1, extent 0.47,-4.053 0.595,-3.752
3D body: height 0.2, standoff 0.05, extent -0.155,-4.052 0.595,-3.752
3D body: height 0.75, standoff 0.6, extent 0.47,-4.698 1.032,-4.397
3D body: height 0.6, standoff 0.1, extent 0.47,-4.698 0.595,-4.397
3D body: height 0.2, standoff 0.05, extent -0.155,-4.697 0.595,-4.397
3D body: height 0.75, standoff 0.6, extent 0.47,-5.353 1.032,-5.052
3D body: height 0.6, standoff 0.1, extent 0.47,-5.353 0.595,-5.052
3D body: height 0.2, standoff 0.05, extent -0.155,-5.352 0.595,-5.052
3D body: height 0.75, standoff 0.6, extent 0.47,-6.005 1.032,-5.705
3D body: height 0.6, standoff 0.1, extent 0.47,-6.005 0.595,-5.705
3D body: height 0.2, standoff 0.05, extent -0.155,-6.005 0.595,-5.705
3D body: height 0.75, standoff 0.6, extent 0.47,-6.653 1.032,-6.352
3D body: height 0.6, standoff 0.1, extent 0.47,-6.653 0.595,-6.352
3D body: height 0.2, standoff 0.05, extent -0.155,-6.652 0.595,-6.352
3D body: height 0.75, standoff 0.6, extent 0.47,-7.3 1.032,-7
3D body: height 0.6, standoff 0.1, extent 0.47,-7.3 0.595,-7
3D body: height 0.2, standoff 0.05, extent -0.155,-7.3 0.595,-7
3D body: height 0.75, standoff 0.6, extent 0.47,-7.947 1.032,-7.647
3D body: height 0.6, standoff 0.1, extent 0.47,-7.947 0.595,-7.647
3D body: height 0.2, standoff 0.05, extent -0.155,-7.947 0.595,-7.647
3D body: height 0.75, standoff 0.6, extent 0.47,-8.602 1.032,-8.302
3D body: height 0.6, standoff 0.1, extent 0.47,-8.602 0.595,-8.302
3D body: height 0.2, standoff 0.05, extent -0.155,-8.602 0.595,-8.302
3D body: height 0.75, standoff 0.6, extent 5.4,-8.602 5.963,-8.302
3D body: height 0.6, standoff 0.1, extent 5.837,-8.602 5.963,-8.302
3D body: height 0.2, standoff 0.05, extent 5.837,-8.602 6.588,-8.302
3D body: height 0.75, standoff 0.6, extent 5.4,-7.95 5.963,-7.65
3D body: height 0.6, standoff 0.1, extent 5.837,-7.95 5.963,-7.65
3D body: height 0.2, standoff 0.05, extent 5.837,-7.95 6.588,-7.65
3D body: height 0.75, standoff 0.6, extent 5.397,-7.3 5.96,-7
3D body: height 0.6, standoff 0.1, extent 5.835,-7.3 5.96,-7
3D body: height 0.2, standoff 0.05, extent 5.835,-7.3 6.585,-7
3D body: height 0.75, standoff 0.6, extent 5.395,-6.65 5.958,-6.35
3D body: height 0.6, standoff 0.1, extent 5.833,-6.65 5.958,-6.35
3D body: height 0.2, standoff 0.05, extent 5.833,-6.65 6.583,-6.35
3D body: height 0.75, standoff 0.6, extent 5.4,-6.002 5.963,-5.702
3D body: height 0.6, standoff 0.1, extent 5.837,-6.002 5.963,-5.702
3D body: height 0.2, standoff 0.05, extent 5.837,-6.002 6.588,-5.702
3D body: height 0.75, standoff 0.6, extent 5.397,-5.355 5.96,-5.055
3D body: height 0.6, standoff 0.1, extent 5.835,-5.355 5.96,-5.055
3D body: height 0.2, standoff 0.05, extent 5.835,-5.355 6.585,-5.055
3D body: height 0.75, standoff 0.6, extent 5.4,-4.697 5.963,-4.397
3D body: height 0.6, standoff 0.1, extent 5.837,-4.697 5.963,-4.397
3D body: height 0.2, standoff 0.05, extent 5.837,-4.697 6.588,-4.397
3D body: height 0.75, standoff 0.6, extent 5.4,-4.052 5.963,-3.752
3D body: height 0.6, standoff 0.1, extent 5.837,-4.052 5.963,-3.752
3D body: height 0.2, standoff 0.05, extent 5.837,-4.052 6.588,-3.752
3D body: height 0.75, standoff 0.6, extent 5.397,-3.402 5.96,-3.102
3D body: height 0.6, standoff 0.1, extent 5.835,-3.402 5.96,-3.102
3D body: height 0.2, standoff 0.05, extent 5.835,-3.402 6.585,-3.102
3D body: height 0.75, standoff 0.6, extent 5.4,-2.747 5.963,-2.447
3D body: height 0.6, standoff 0.1, extent 5.837,-2.747 5.963,-2.447
3D body: height 0.2, standoff 0.05, extent 5.837,-2.747 6.588,-2.447
3D body: height 0.75, standoff 0.6, extent 5.397,-2.105 5.96,-1.805
3D body: height 0.6, standoff 0.1, extent 5.835,-2.105 5.96,-1.805
3D body: height 0.2, standoff 0.05, extent 5.835,-2.105 6.585,-1.805
3D body: height 0.75, standoff 0.6, extent 5.395,-1.455 5.958,-1.155
3D body: height 0.6, standoff 0.1, extent 5.833,-1.455 5.958,-1.155
3D body: height 0.2, standoff 0.05, extent 5.833,-1.455 6.583,-1.155
3D body: height 0.75, standoff 0.6, extent 5.395,-0.802 5.958,-0.502
3D body: height 0.6, standoff 0.1, extent 5.833,-0.802 5.958,-0.502
3D body: height 0.2, standoff 0.05, extent 5.833,-0.802 6.583,-0.502
3D body: height 0.75, standoff 0.6, extent 5.395,-0.147 5.958,0.153
3D body: height 0.6, standoff 0.1, extent 5.833,-0.147 5.958,0.153
3D body: height 0.2, standoff 0.05, extent 5.833,-0.147 6.583,0.153

## TSX_3225_QB [mm]
pads (4):
  rect 1.4x1.15 smd: 1(0,0) 2(2.2,0) 3(2.2,1.6) 4(0,1.6)
Top Overlay:
  lines w0.127: -1.125,1.825 -1.125,2.5 -0.375,2.5 ; -1.047,-0.086 -1.047,-0.597 -0.8,-0.853 -0.228,-0.853 ; 2.475,-1 3.25,-1 3.25,-0.325 ; 2.475,2.525 3.225,2.525 3.225,1.85
3D body: height 0.62, standoff 0.55, extent -0.5,-0.4 2.7,2.1
3D body: height 0.55, standoff 0.3, extent -0.5,-0.4 2.7,2.1
3D body: height 0.3, standoff 0, extent -0.5,-0.4 2.7,2.1

## TX2_3V_QB [mil]
pads (8):
  rect 62x62 hole 32: 1(0,0)
  round 62 hole 32: 3(200,0) 4(300,0) 5(400,0) 8(400,200) 9(300,200) 10(200,200) 12(0,200)
Top Overlay:
  lines w10: -50,-50 -50,250 550,250 550,-50 -50,-50
3D body: height 322.83, standoff 0, extent -35,-45 540,245

## TX2_5V_QB [mil]
pads (8):
  rect 62x62 hole 32: 1(0,0)
  round 62 hole 32: 3(200,0) 4(300,0) 5(400,0) 8(400,200) 9(300,200) 10(200,200) 12(0,200)
Top Overlay:
  lines w10: -50,-50 550,-50 550,250 -50,250 -50,-50
3D body: height 322.83, standoff 0, extent -35,-45 540,245

## TYPE-C-USB-17 [mm]
height 12.75
pads (22):
  oval 1.2x1.8 hole 0.8 slot 1.4 at 90 deg: 0(-4.32,-2.624) 0(4.32,-2.624)
  oval 1.2x2 hole 0.8 slot 1.6 at 90 deg: 0(-4.32,1.556) 0(4.32,1.556)
  rect 0.3x1.3 smd: A1(-3.35,2.623) A4(-2.55,2.623) A5(-1.25,2.623) A6(-0.25,2.623) A7(0.25,2.623) A8(-1.75,2.624) A9(2.55,2.623) A12(3.35,2.623) B1(3.05,2.623) B4(2.25,2.623) B5(1.75,2.623) B6(0.75,2.623) B7(-0.75,2.623) B8(1.25,2.624) B9(-2.25,2.623) B12(-3.05,2.623)
  round 0.75 hole 0.75 unplated: ""(-2.89,1.026) ""(2.89,1.026)
Top Overlay:
  lines w0.254: -3,2.471 -3,1.221 -1.25,1.221 -1.25,2.471 ; 1.247,2.473 1.247,1.223 2.997,1.223 2.997,2.473 ; -4.32,-5.227 -4.32,2.471 4.32,2.471 4.32,-5.227 -4.32,-5.227

## UPG2214_QB [mm]
height 0.55
pads (6):
  rect 0.27x0.23 smd: 1(0,0.48) 2(0,0) 3(0,-0.48) 4(1.1,-0.48) 5(1.1,0) 6(1.1,0.48)
Top Overlay:
  lines w0.127: 0.449,0.765 0.352,0.765 0.352,-0.657 0.762,-0.657 0.762,0.765 0.665,0.765 cw(c0.557,0.873) 0.449,0.765
  lines w0.172: 0.149,0.928 0.151,0.928
3D body: height 0.11, standoff 0, extent 1,0.4 1.2,0.56
3D body: height 0.11, standoff 0, extent 1,-0.08 1.2,0.08
3D body: height 0.11, standoff 0, extent 1,-0.56 1.2,-0.4
3D body: height 0.11, standoff 0, extent -0.1,-0.56 0.1,-0.4
3D body: height 0.11, standoff 0, extent -0.1,-0.08 0.1,0.08
3D body: height 0.11, standoff 0, extent -0.1,0.4 0.1,0.56
3D body: height 0.55, standoff 0.11, extent 0,-0.755 1.1,0.745

## USB-TYPE-C_16PIN-MALE-TYPE-C-31-M-12 [mm]
pads (22):
  oval 1.2x1.8 hole 0.8 slot 1.4 at 90 deg: 0(-4.32,-2.624) 0(4.32,-2.624)
  oval 1.2x2 hole 0.8 slot 1.6 at 90 deg: 0(-4.32,1.556) 0(4.32,1.556)
  rect 0.3x1.3 smd: A1(-3.35,2.623) A4(-2.55,2.623) A5(-1.25,2.623) A6(-0.25,2.623) A7(0.25,2.623) A8(1.25,2.624) A9(2.55,2.623) A12(3.35,2.623) B1(3.05,2.623) B4(2.25,2.623) B5(1.75,2.623) B6(0.75,2.623) B7(-0.75,2.623) B8(-1.75,2.624) B9(-2.25,2.623) B12(-3.05,2.623)
  round 0.75 hole 0.75 unplated: ""(-2.89,1.026) ""(2.89,1.026)
Top Overlay:
  lines w0.254: -3,2.471 -3,1.221 -1.25,1.221 -1.25,2.471 ; 1.247,2.473 1.247,1.223 2.997,1.223 2.997,2.473 ; -4.32,-5.227 -4.32,2.471 4.32,2.471 4.32,-5.227 -4.32,-5.227

## VDR0402_QB [mm]
pads (2):
  rect 0.8x0.6 smd: 1(0,0) 2(1.2,0)
Top Overlay:
  lines w0.254: 0.25,-0.575 -0.675,-0.575 -0.675,0.575 0.25,0.575 ; 0.95,-0.575 1.875,-0.575 1.875,0.575 0.95,0.575
3D body: height 0.33, standoff 0, extent 0.35,-0.25 0.85,0.25
3D body: height 0.33, standoff 0, extent 0.1,-0.25 0.35,0.25
3D body: height 0.33, standoff 0, extent 0.85,-0.25 1.1,0.25